# Altium schematic symbol library sensor.SCHLIB: 37 symbols
Pins are listed as number, name and electrical type; pins without a type are passive.

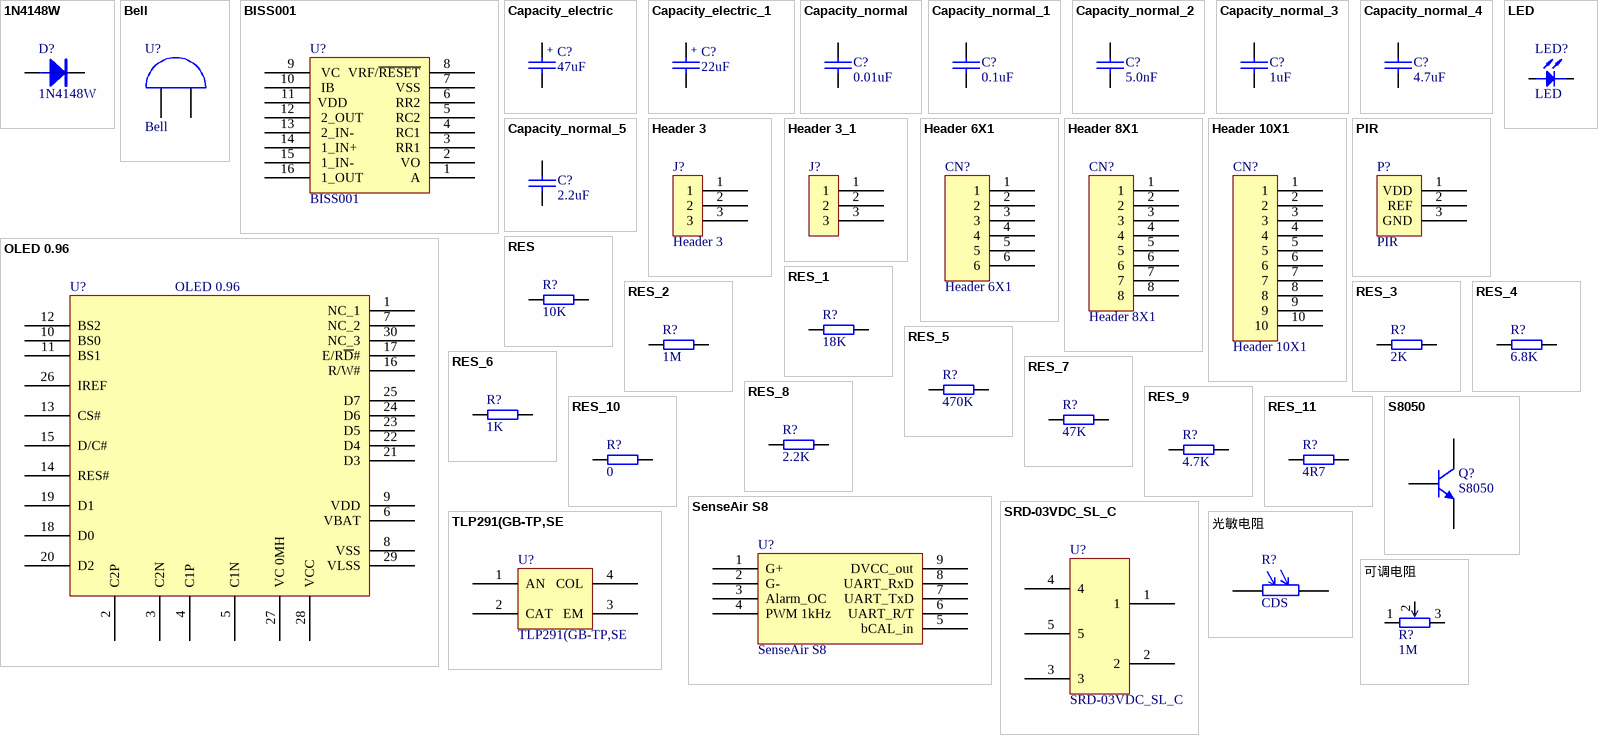
[diagram p0: symbols 1N4148W to 可调电阻]

## 1N4148W
designator D?
Manufactor: YANGJIE(扬杰); Package: SOD-123; Value: 1N4148W
footprint 1N4148W
pins: 1 A, 2 K

## Bell
designator U?
Manufactor: Fengming(锋鸣电子); Value: 电磁式有源一体蜂鸣器3V; Package: Through Hole,9x5.5mm
footprint BUZZER_mini
pins: 1 A, 2 B

## BISS001
designator U?
热释电传感器; Manufactor: 无锡中微; Value: BISS0001; Package: SOP-16_150mil
footprint SOP-16_150mil
pins: 1 A, 2 VO, 3 RR1, 4 RC1, 5 RC2, 6  RR2, 7 VSS, 8  VRF/~{RESET}, 9  VC, 10  IB, 11 VDD, 12  2_OUT, 13  2_IN-, 14  1_IN+, 15  1_IN-, 16  1_OUT

## Capacity_electric
designator C?, comment 47uF
Manufactor: CEC(振华新云); Value: 47uF(476) ±10% 6.3V; Package: CASE-A_3216
footprint C-钽贴A(S)_3216M_18(12)
pins: 1, 2
text: +

## Capacity_electric_1
designator C?, comment 22uF
Manufactor: SAMSUNG(三星); Value: 22uF(226) ±20% 6.3V; Package: 0603
footprint C-钽贴A(S)_3216M_18(12)
pins: 1, 2
text: +

## Capacity_normal
designator C?, comment 0.01uF
MAnufactor: YAGEO(国巨); Value: 10nF(103) ±10% 10V; Package: 0603
footprint 0603 - CAP
pins: 1, 2

## Capacity_normal_1
designator C?, comment 0.1uF
MAnufactor: YAGEO(国巨); Value: 100nF(104) ±10% 10V; Package: 0603
footprint 0603 - CAP
pins: 1, 2

## Capacity_normal_2
designator C?, comment 5.0nF
MAnufactor: FH(风华); Value: 5.0nF(502) ±10% 50V; Package: 0603
footprint 0603 - CAP
pins: 1, 2

## Capacity_normal_3
designator C?, comment 1uF
MAnufactor: YAGEO(国巨); Value: 1uF(105) ±10% 6.3V; Package: 0603
footprint 0603 - CAP
pins: 1, 2

## Capacity_normal_4
designator C?, comment 4.7uF
MAnufactor: muRata(村田); Value: 4.7uF ±10% 6.3V; Package: 0603
footprint 0603 - CAP
pins: 1, 2

## Capacity_normal_5
designator C?, comment 2.2uF
MAnufactor: AVX; Value: 2.2uF ±20% 4V; Package: 0603
footprint 0603 - CAP
pins: 1, 2

## Header 3
designator J?
Header,3-pin; Manufactor: *; Package: 2mm 1X3排针
footprint HDR1X3 - duplicate1 (2mm 3 pin 排针)
pins: 1, 2, 3

## Header 3_1
designator J?
Header,3-pin; Manufactor: *; Package: 2mm 1X3排针
footprint HDR1X3 - duplicate1 (2mm 3 pin 排针)
pins: 1, 2, 3

## Header 6X1
designator CN?
Value: 排针 6X1 2.54mm; Manufactor: *
footprint HDR1X6 (Connector; Header; 6 Position)
pins: 1, 2, 3, 4, 5, 6

## Header 8X1
designator CN?
Value: 排针 8X1 2.54mm; Manufactor: *
footprint HDR1X8 (Connector; Header; 8 Position)
pins: 1, 2, 3, 4, 5, 6, 7, 8

## Header 10X1
designator CN?
Value: 排针 10X1 2.54mm; Manufactor: *
footprint HDR1X10 (Connector; Header; 10 Position)
pins: 1, 2, 3, 4, 5, 6, 7, 8, 9, 10

## LED
designator LED?
Manufactor: 台湾亿光; Package: 0603; Value: *
footprint 0603-LED
pins: 1, 2

## OLED 0.96
designator U?
中景园 0.96寸OLED 30pin; Value: oled 0.96 30pin; Manufactor: 中景园; Package: 0.96
footprint oled 0.96
pins: 1 NC_1, 2 C2P, 3 C2N, 4 C1P, 5 C1N, 6 VBAT, 7 NC_2, 8 VSS, 9 VDD, 10 BS0, 11 BS1, 12 BS2, 13 CS#, 14 RES#, 15 D/C#, 16 R/W#, 17 E/R~{D}#, 18 D0, 19 D1, 20 D2, 21 D3, 22 D4, 23 D5, 24 D6, 25 D7, 26 IREF, 27 VC 0MH, 28 VCC, 29 VLSS, 30 NC_3

## PIR
designator P?
Manufactor: 森霸; Value: AS312; Package: Through Hole
footprint PIR (人体热释电传感器 3pin)
pins: 1 VDD, 2 REF, 3 GND

## RES
designator R?, comment 10K
Manufactor: UNI-ROYAL(厚声); Value: 10KΩ ±1%; Package: 0603
footprint 0603 - RES
pins: 1, 2

## RES_1
designator R?, comment 18K
Manufactor: YAGEO(国巨); Value: 18KΩ(1802) ±1%; Package: 0603
footprint 0603 - RES
pins: 1, 2

## RES_2
designator R?, comment 1M
Manufactor: UNI-ROYAL(厚声); Value: 1MΩ ±1%; Package: 0603
footprint 0603 - RES
pins: 1, 2

## RES_3
designator R?, comment 2K
Manufactor: YAGEO(国巨); Value: 2KΩ(2K) ±1% 50PPM; Package: 0603
footprint 0603 - RES
pins: 1, 2

## RES_4
designator R?, comment 6.8K
Manufactor: YAGEO(国巨); Value: 6.8KΩ(6801) ±1%; Package: 0603
footprint 0603 - RES
pins: 1, 2

## RES_5
designator R?, comment 470K
Manufactor: YAGEO(国巨); Value: 470KΩ(470K) ±1% 50PPM; Package: 0603
footprint 0603 - RES
pins: 1, 2

## RES_6
designator R?, comment 1K
Manufactor: YAGEO(国巨); Value: 1KΩ(1K) ±1% 50PPM; Package: 0603
footprint 0603 - RES
pins: 1, 2

## RES_7
designator R?, comment 47K
Manufactor: UNI-ROYAL(厚声); Value: 10KΩ ±1%; Package: 0603
footprint 0603 - RES
pins: 1, 2

## RES_8
designator R?, comment 2.2K
Manufactor: YAGEO(国巨); Value: 2.2KΩ(2201) ±1%; Package: 0603
footprint 0603 - RES
pins: 1, 2

## RES_9
designator R?, comment 4.7K
Manufactor: YAGEO(国巨); Value: 4.7KΩ(472) ±5%; Package: 0603
footprint 0603 - RES
pins: 1, 2

## RES_10
designator R?, comment 0
Manufactor: YAGEO(国巨); Value: 0Ω(0000) ±1%; Package: 0603
footprint 0603 - RES
pins: 1, 2

## RES_11
designator R?, comment 4R7
Manufactor: ROHM(罗姆); Value: 4.7Ω(4R7) ±5%; Package: 0603
footprint 0603 - RES
pins: 1, 2

## S8050
designator Q?
Manufactor: LGE(鲁光); Package: TO-92; Value: S8050
footprint TO-92_3 (s8050)
pins: 1 E, 2 B, 3 C

## SenseAir S8
designator U?
Manufactor: 瑞士SenseAir; Value: Sweden SenseAir imported CO2 sensor S8-0053, 0-2000PPM; Package: *
footprint SenseAir S8
pins: 1 G+, 2 G-, 3 Alarm_OC, 4 PWM 1kHz, 5 bCAL_in, 6 UART_R/T, 7 UART_TxD, 8 UART_RxD, 9 DVCC_out

## SRD-03VDC_SL_C
designator U?
SL，3V 继电器模块; Manufactor: 松乐; Value: SRD-03VDC-SL-C 蓝色; Package: Through Hole
footprint SRD-03VDC-SL-C (蓝色 3V 继电器)
pins: 1, 2, 3, 4, 5

## TLP291(GB-TP,SE
designator U?
Manufactor: TOSHIBA(东芝); Package: SOP-4_P1.27; Value: TLP291(GB-TP,SE
footprint TLP291(GB-TP,SE (光耦)
pins: 1 AN, 2 CAT, 3 EM, 4 COL

## 光敏电阻
designator R?, comment CDS
Manufactor: JCHL(晶创和立); Value: 光敏电阻; Package: Through Hole
footprint RES-guangmin (光敏电阻)
pins: 1, 2

## 可调电阻
designator R?, comment 1M
Manufactor: BOCHEN(博晨); Value: 1MΩ ±10% ±250ppm/℃; Package: 3296W
footprint 3296W
pins: 1, 2, 3